# Altium integrated library Maxim Digital Potentiometers.IntLib: 1045 symbols (part 38 of 42)
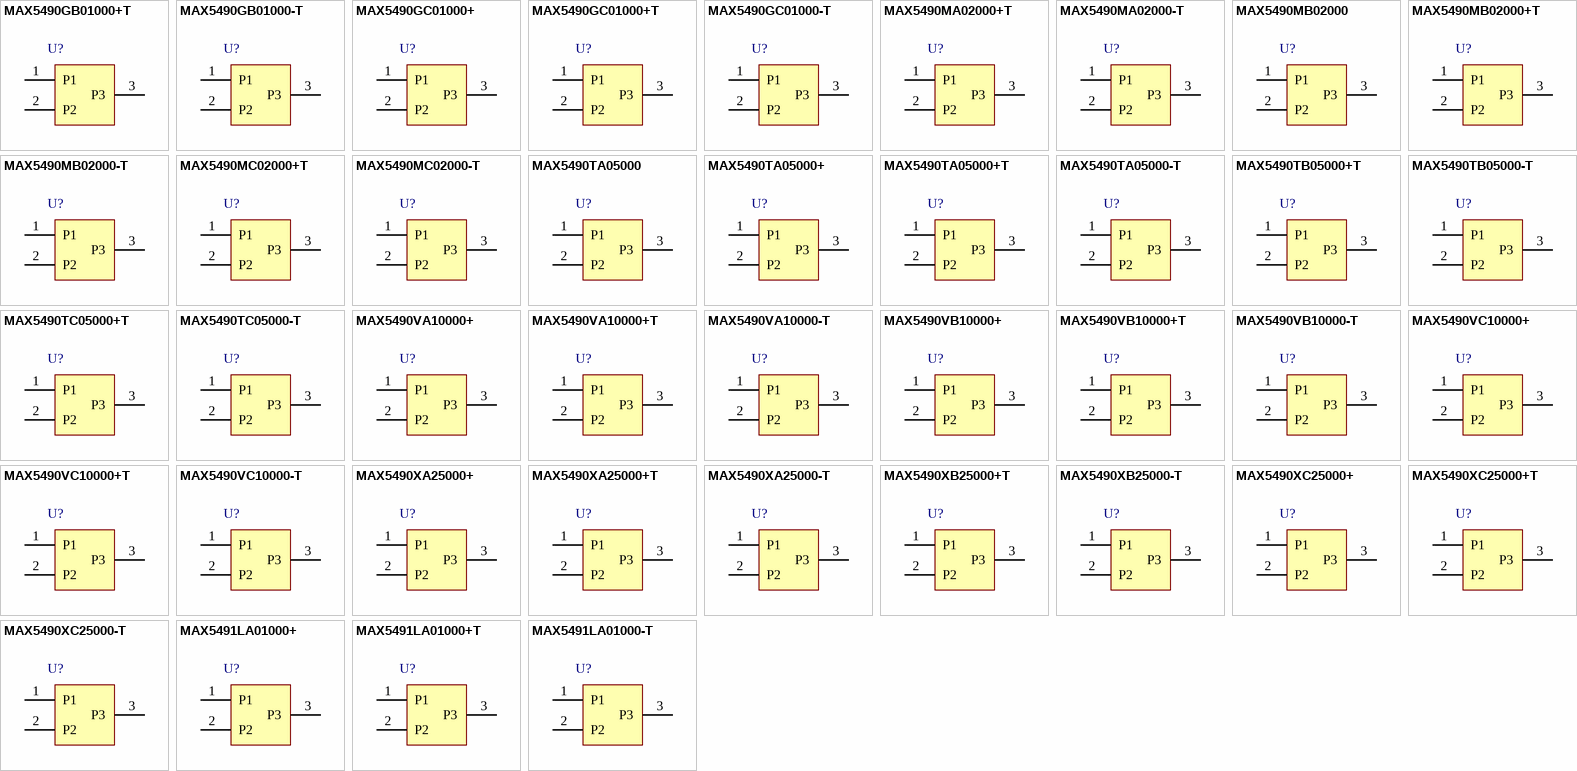
[diagram p66: symbols MAX5490GB01000+T to MAX5491LA01000-T]

## MAX5490XB25000-T
designator U?
100k 2 kv ESD Precision-Matched Resistor-Divider, -55 to 125 degC, 3-pin SOT (U3-2), Tape and Reel; PartNumber: MAX5490XB25000-T; DatasheetVersion: Rev. 2; PackageVersion: Rev. J, 06/2012; PackageReference: U3-2; PackageDescription: 3-Pin Small-Outline Transistor Package (U3-2), Body 2.92 x 1.3 mm, Pitch 0.95 mm; Supplier 1: Mouser; Supplier Part Number 1: N/A; Applications: Precision Voltage Divider; Mounting Technology: Surface Mount; Code_JEDEC: TO236; ComponentLink1Description: Manufacturer URL; ComponentLink1URL: http://www.maximintegrated.com/; ComponentLink2Description: Datasheet; ComponentLink2URL: http://datasheets.maximintegrated.com/en/ds/MAX5490.pdf; ComponentLink3Description: Package Specification; ComponentLink3URL: http://pdfserv.maximintegrated.com/package_dwgs/21-0051.PDF
footprint MAXM-U3-2_N (SOT23, 3-Leads, Body 2.92x1.3mm, Pitch 0.95mm, IPC Medium Density)
footprint MAXM-U3-2_L (SOT23, 3-Leads, Body 2.92x1.3mm, Pitch 0.95mm, IPC High Density)
footprint MAXM-U3-2_M (SOT23, 3-Leads, Body 2.92x1.3mm, Pitch 0.95mm, IPC Low Density)
pins: 1 P1 "R1 Connection Terminal", 2 P2 "R2 Connection Terminal", 3 P3 "Midpoint Between R1 and R2 Connection Terminals"

## MAX5490XC25000+
designator U?
100k 2 kv ESD Precision-Matched Resistor-Divider, -55 to 125 degC, 3-pin SOT (U3+2), Pb-Free; PartNumber: MAX5490XC25000+; DatasheetVersion: Rev. 2; PackageVersion: Rev. J, 06/2012; PackageReference: U3+2; PackageDescription: 3-Pin Small-Outline Transistor Package (U3+2), Body 2.92 x 1.3 mm, Pitch 0.95 mm; Supplier 1: Mouser; Supplier Part Number 1: N/A; Applications: Precision Voltage Divider; Mounting Technology: Surface Mount; Code_JEDEC: TO236; ComponentLink1Description: Manufacturer URL; ComponentLink1URL: http://www.maximintegrated.com/; ComponentLink2Description: Datasheet; ComponentLink2URL: http://datasheets.maximintegrated.com/en/ds/MAX5490.pdf; ComponentLink3Description: Package Specification; ComponentLink3URL: http://pdfserv.maximintegrated.com/package_dwgs/21-0051.PDF
footprint MAXM-U3+2_N (SOT23, 3-Leads, Body 2.92x1.3mm, Pitch 0.95mm, IPC Medium Density)
footprint MAXM-U3+2_L (SOT23, 3-Leads, Body 2.92x1.3mm, Pitch 0.95mm, IPC High Density)
footprint MAXM-U3+2_M (SOT23, 3-Leads, Body 2.92x1.3mm, Pitch 0.95mm, IPC Low Density)
pins: 1 P1 "R1 Connection Terminal", 2 P2 "R2 Connection Terminal", 3 P3 "Midpoint Between R1 and R2 Connection Terminals"

## MAX5490XC25000+T
designator U?
100k 2 kv ESD Precision-Matched Resistor-Divider, -55 to 125 degC, 3-pin SOT (U3+2), Pb-Free, Tape and Reel; PartNumber: MAX5490XC25000+T; DatasheetVersion: Rev. 2; PackageVersion: Rev. J, 06/2012; PackageReference: U3+2; PackageDescription: 3-Pin Small-Outline Transistor Package (U3+2), Body 2.92 x 1.3 mm, Pitch 0.95 mm; Supplier 1: Digi-Key; Supplier Part Number 1: MAX5490XC25000+TTR-ND; Supplier 2: Digi-Key; Supplier Part Number 2: MAX5490XC25000+TCT-ND; Supplier 3: Digi-Key; Supplier Part Number 3: MAX5490XC25000+TDKR-ND; Supplier 4: Mouser; Supplier Part Number 4: 700-MAX5490XC25000T; Applications: Precision Voltage Divider; Mounting Technology: Surface Mount; Code_JEDEC: TO236; ComponentLink1Description: Manufacturer URL; ComponentLink1URL: http://www.maximintegrated.com/; ComponentLink2Description: Datasheet; ComponentLink2URL: http://datasheets.maximintegrated.com/en/ds/MAX5490.pdf; ComponentLink3Description: Package Specification; ComponentLink3URL: http://pdfserv.maximintegrated.com/package_dwgs/21-0051.PDF
footprint MAXM-U3+2_N (SOT23, 3-Leads, Body 2.92x1.3mm, Pitch 0.95mm, IPC Medium Density)
footprint MAXM-U3+2_L (SOT23, 3-Leads, Body 2.92x1.3mm, Pitch 0.95mm, IPC High Density)
footprint MAXM-U3+2_M (SOT23, 3-Leads, Body 2.92x1.3mm, Pitch 0.95mm, IPC Low Density)
pins: 1 P1 "R1 Connection Terminal", 2 P2 "R2 Connection Terminal", 3 P3 "Midpoint Between R1 and R2 Connection Terminals"

## MAX5490XC25000-T
designator U?
100k 2 kv ESD Precision-Matched Resistor-Divider, -55 to 125 degC, 3-pin SOT (U3-2), Tape and Reel; PartNumber: MAX5490XC25000-T; DatasheetVersion: Rev. 2; PackageVersion: Rev. J, 06/2012; PackageReference: U3-2; PackageDescription: 3-Pin Small-Outline Transistor Package (U3-2), Body 2.92 x 1.3 mm, Pitch 0.95 mm; Supplier 1: Mouser; Supplier Part Number 1: N/A; Applications: Precision Voltage Divider; Mounting Technology: Surface Mount; Code_JEDEC: TO236; ComponentLink1Description: Manufacturer URL; ComponentLink1URL: http://www.maximintegrated.com/; ComponentLink2Description: Datasheet; ComponentLink2URL: http://datasheets.maximintegrated.com/en/ds/MAX5490.pdf; ComponentLink3Description: Package Specification; ComponentLink3URL: http://pdfserv.maximintegrated.com/package_dwgs/21-0051.PDF
footprint MAXM-U3-2_N (SOT23, 3-Leads, Body 2.92x1.3mm, Pitch 0.95mm, IPC Medium Density)
footprint MAXM-U3-2_L (SOT23, 3-Leads, Body 2.92x1.3mm, Pitch 0.95mm, IPC High Density)
footprint MAXM-U3-2_M (SOT23, 3-Leads, Body 2.92x1.3mm, Pitch 0.95mm, IPC Low Density)
pins: 1 P1 "R1 Connection Terminal", 2 P2 "R2 Connection Terminal", 3 P3 "Midpoint Between R1 and R2 Connection Terminals"

## MAX5491LA01000+
designator U?
30k 2 kV ESD Precision-Matched Resistor-Divider, -40 to 85 degC, 3-pin SOT (U3+2), Pb-Free; PartNumber: MAX5491LA01000+; DatasheetVersion: Rev. 3; PackageVersion: Rev. J, 06/2012; PackageReference: U3+2; PackageDescription: 3-Pin Small-Outline Transistor Package (U3+2), Body 2.92 x 1.3 mm, Pitch 0.95 mm; Supplier 1: Mouser; Supplier Part Number 1: N/A; Applications: Precision Voltage Divider; Mounting Technology: Surface Mount; Code_JEDEC: TO236; ComponentLink1Description: Manufacturer URL; ComponentLink1URL: http://www.maximintegrated.com/; ComponentLink2Description: Datasheet; ComponentLink2URL: http://datasheets.maximintegrated.com/en/ds/MAX5491.pdf; ComponentLink3Description: Package Specification; ComponentLink3URL: http://pdfserv.maximintegrated.com/package_dwgs/21-0051.PDF
footprint MAXM-U3+2_N (SOT23, 3-Leads, Body 2.92x1.3mm, Pitch 0.95mm, IPC Medium Density)
footprint MAXM-U3+2_L (SOT23, 3-Leads, Body 2.92x1.3mm, Pitch 0.95mm, IPC High Density)
footprint MAXM-U3+2_M (SOT23, 3-Leads, Body 2.92x1.3mm, Pitch 0.95mm, IPC Low Density)
pins: 1 P1 "R1 Connection Terminal", 2 P2 "R2 Connection Terminal", 3 P3 "Midpoint Between R1 and R2 Connection Terminals"

## MAX5491LA01000+T
designator U?
30k 2 kV ESD Precision-Matched Resistor-Divider, -40 to 85 degC, 3-pin SOT (U3+2), Pb-Free, Tape and Reel; PartNumber: MAX5491LA01000+T; DatasheetVersion: Rev. 3; PackageVersion: Rev. J, 06/2012; PackageReference: U3+2; PackageDescription: 3-Pin Small-Outline Transistor Package (U3+2), Body 2.92 x 1.3 mm, Pitch 0.95 mm; Supplier 1: Digi-Key; Supplier Part Number 1: MAX5491LA01000+TTR-ND; Supplier 2: Digi-Key; Supplier Part Number 2: MAX5491LA01000+TCT-ND; Supplier 3: Digi-Key; Supplier Part Number 3: MAX5491LA01000+TDKR-ND; Supplier 4: Farnell; Supplier Part Number 4: 1845899; Supplier 5: Mouser; Supplier Part Number 5: 700-MAX5491LA01000T; Applications: Precision Voltage Divider; Mounting Technology: Surface Mount; Code_JEDEC: TO236; ComponentLink1Description: Manufacturer URL; ComponentLink1URL: http://www.maximintegrated.com/; ComponentLink2Description: Datasheet; ComponentLink2URL: http://datasheets.maximintegrated.com/en/ds/MAX5491.pdf; ComponentLink3Description: Package Specification; ComponentLink3URL: http://pdfserv.maximintegrated.com/package_dwgs/21-0051.PDF
footprint MAXM-U3+2_N (SOT23, 3-Leads, Body 2.92x1.3mm, Pitch 0.95mm, IPC Medium Density)
footprint MAXM-U3+2_L (SOT23, 3-Leads, Body 2.92x1.3mm, Pitch 0.95mm, IPC High Density)
footprint MAXM-U3+2_M (SOT23, 3-Leads, Body 2.92x1.3mm, Pitch 0.95mm, IPC Low Density)
pins: 1 P1 "R1 Connection Terminal", 2 P2 "R2 Connection Terminal", 3 P3 "Midpoint Between R1 and R2 Connection Terminals"

## MAX5491LA01000-T
designator U?
30k 2 kV ESD Precision-Matched Resistor-Divider, -40 to 85 degC, 3-pin SOT (U3-2), Tape and Reel; PartNumber: MAX5491LA01000-T; DatasheetVersion: Rev. 3; PackageVersion: Rev. J, 06/2012; PackageReference: U3-2; PackageDescription: 3-Pin Small-Outline Transistor Package (U3-2), Body 2.92 x 1.3 mm, Pitch 0.95 mm; Supplier 1: Mouser; Supplier Part Number 1: N/A; Applications: Precision Voltage Divider; Mounting Technology: Surface Mount; Code_JEDEC: TO236; ComponentLink1Description: Manufacturer URL; ComponentLink1URL: http://www.maximintegrated.com/; ComponentLink2Description: Datasheet; ComponentLink2URL: http://datasheets.maximintegrated.com/en/ds/MAX5491.pdf; ComponentLink3Description: Package Specification; ComponentLink3URL: http://pdfserv.maximintegrated.com/package_dwgs/21-0051.PDF
footprint MAXM-U3-2_N (SOT23, 3-Leads, Body 2.92x1.3mm, Pitch 0.95mm, IPC Medium Density)
footprint MAXM-U3-2_L (SOT23, 3-Leads, Body 2.92x1.3mm, Pitch 0.95mm, IPC High Density)
footprint MAXM-U3-2_M (SOT23, 3-Leads, Body 2.92x1.3mm, Pitch 0.95mm, IPC Low Density)
pins: 1 P1 "R1 Connection Terminal", 2 P2 "R2 Connection Terminal", 3 P3 "Midpoint Between R1 and R2 Connection Terminals"

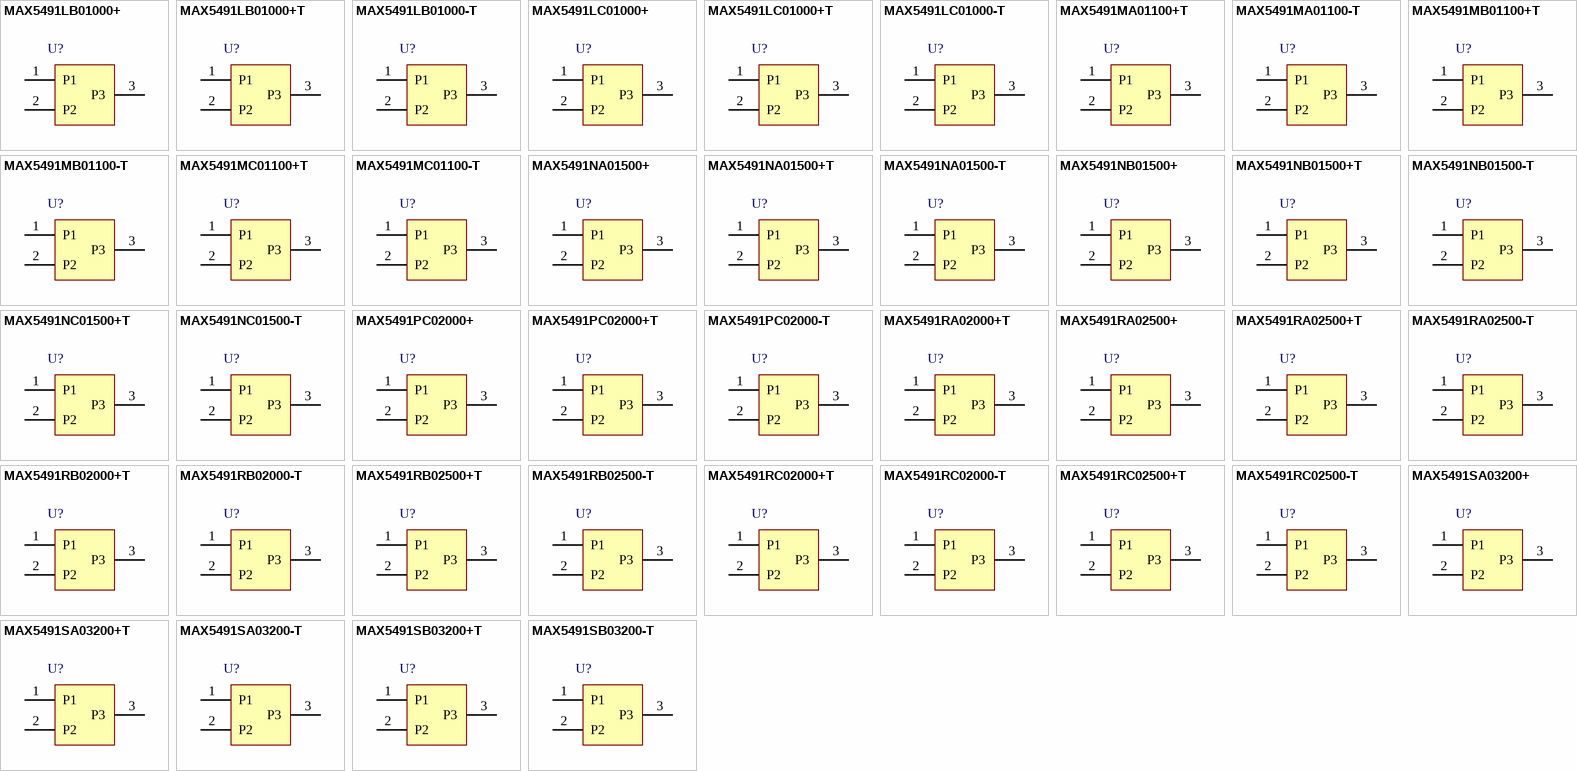
[diagram p26: symbols MAX5491LB01000+ to MAX5491SB03200-T]

## MAX5491LB01000+
designator U?
30k 2 kV ESD Precision-Matched Resistor-Divider, -40 to 85 degC, 3-pin SOT (U3+2), Pb-Free; PartNumber: MAX5491LB01000+; DatasheetVersion: Rev. 3; PackageVersion: Rev. J, 06/2012; PackageReference: U3+2; PackageDescription: 3-Pin Small-Outline Transistor Package (U3+2), Body 2.92 x 1.3 mm, Pitch 0.95 mm; Supplier 1: Mouser; Supplier Part Number 1: N/A; Applications: Precision Voltage Divider; Mounting Technology: Surface Mount; Code_JEDEC: TO236; ComponentLink1Description: Manufacturer URL; ComponentLink1URL: http://www.maximintegrated.com/; ComponentLink2Description: Datasheet; ComponentLink2URL: http://datasheets.maximintegrated.com/en/ds/MAX5491.pdf; ComponentLink3Description: Package Specification; ComponentLink3URL: http://pdfserv.maximintegrated.com/package_dwgs/21-0051.PDF
footprint MAXM-U3+2_N (SOT23, 3-Leads, Body 2.92x1.3mm, Pitch 0.95mm, IPC Medium Density)
footprint MAXM-U3+2_L (SOT23, 3-Leads, Body 2.92x1.3mm, Pitch 0.95mm, IPC High Density)
footprint MAXM-U3+2_M (SOT23, 3-Leads, Body 2.92x1.3mm, Pitch 0.95mm, IPC Low Density)
pins: 1 P1 "R1 Connection Terminal", 2 P2 "R2 Connection Terminal", 3 P3 "Midpoint Between R1 and R2 Connection Terminals"

## MAX5491LB01000+T
designator U?
30k 2 kV ESD Precision-Matched Resistor-Divider, -40 to 85 degC, 3-pin SOT (U3+2), Pb-Free, Tape and Reel; PartNumber: MAX5491LB01000+T; DatasheetVersion: Rev. 3; PackageVersion: Rev. J, 06/2012; PackageReference: U3+2; PackageDescription: 3-Pin Small-Outline Transistor Package (U3+2), Body 2.92 x 1.3 mm, Pitch 0.95 mm; Supplier 1: Digi-Key; Supplier Part Number 1: MAX5491LB01000+T-ND; Supplier 2: Mouser; Supplier Part Number 2: 700-MAX5491LB01000T; Applications: Precision Voltage Divider; Mounting Technology: Surface Mount; Code_JEDEC: TO236; ComponentLink1Description: Manufacturer URL; ComponentLink1URL: http://www.maximintegrated.com/; ComponentLink2Description: Datasheet; ComponentLink2URL: http://datasheets.maximintegrated.com/en/ds/MAX5491.pdf; ComponentLink3Description: Package Specification; ComponentLink3URL: http://pdfserv.maximintegrated.com/package_dwgs/21-0051.PDF
footprint MAXM-U3+2_N (SOT23, 3-Leads, Body 2.92x1.3mm, Pitch 0.95mm, IPC Medium Density)
footprint MAXM-U3+2_L (SOT23, 3-Leads, Body 2.92x1.3mm, Pitch 0.95mm, IPC High Density)
footprint MAXM-U3+2_M (SOT23, 3-Leads, Body 2.92x1.3mm, Pitch 0.95mm, IPC Low Density)
pins: 1 P1 "R1 Connection Terminal", 2 P2 "R2 Connection Terminal", 3 P3 "Midpoint Between R1 and R2 Connection Terminals"

## MAX5491LB01000-T
designator U?
30k 2 kV ESD Precision-Matched Resistor-Divider, -40 to 85 degC, 3-pin SOT (U3-2), Tape and Reel; PartNumber: MAX5491LB01000-T; DatasheetVersion: Rev. 3; PackageVersion: Rev. J, 06/2012; PackageReference: U3-2; PackageDescription: 3-Pin Small-Outline Transistor Package (U3-2), Body 2.92 x 1.3 mm, Pitch 0.95 mm; Supplier 1: Mouser; Supplier Part Number 1: N/A; Applications: Precision Voltage Divider; Mounting Technology: Surface Mount; Code_JEDEC: TO236; ComponentLink1Description: Manufacturer URL; ComponentLink1URL: http://www.maximintegrated.com/; ComponentLink2Description: Datasheet; ComponentLink2URL: http://datasheets.maximintegrated.com/en/ds/MAX5491.pdf; ComponentLink3Description: Package Specification; ComponentLink3URL: http://pdfserv.maximintegrated.com/package_dwgs/21-0051.PDF
footprint MAXM-U3-2_N (SOT23, 3-Leads, Body 2.92x1.3mm, Pitch 0.95mm, IPC Medium Density)
footprint MAXM-U3-2_L (SOT23, 3-Leads, Body 2.92x1.3mm, Pitch 0.95mm, IPC High Density)
footprint MAXM-U3-2_M (SOT23, 3-Leads, Body 2.92x1.3mm, Pitch 0.95mm, IPC Low Density)
pins: 1 P1 "R1 Connection Terminal", 2 P2 "R2 Connection Terminal", 3 P3 "Midpoint Between R1 and R2 Connection Terminals"

## MAX5491LC01000+
designator U?
30k 2 kV ESD Precision-Matched Resistor-Divider, -40 to 85 degC, 3-pin SOT (U3+2), Pb-Free; PartNumber: MAX5491LC01000+; DatasheetVersion: Rev. 3; PackageVersion: Rev. J, 06/2012; PackageReference: U3+2; PackageDescription: 3-Pin Small-Outline Transistor Package (U3+2), Body 2.92 x 1.3 mm, Pitch 0.95 mm; Supplier 1: Mouser; Supplier Part Number 1: N/A; Applications: Precision Voltage Divider; Mounting Technology: Surface Mount; Code_JEDEC: TO236; ComponentLink1Description: Manufacturer URL; ComponentLink1URL: http://www.maximintegrated.com/; ComponentLink2Description: Datasheet; ComponentLink2URL: http://datasheets.maximintegrated.com/en/ds/MAX5491.pdf; ComponentLink3Description: Package Specification; ComponentLink3URL: http://pdfserv.maximintegrated.com/package_dwgs/21-0051.PDF
footprint MAXM-U3+2_N (SOT23, 3-Leads, Body 2.92x1.3mm, Pitch 0.95mm, IPC Medium Density)
footprint MAXM-U3+2_L (SOT23, 3-Leads, Body 2.92x1.3mm, Pitch 0.95mm, IPC High Density)
footprint MAXM-U3+2_M (SOT23, 3-Leads, Body 2.92x1.3mm, Pitch 0.95mm, IPC Low Density)
pins: 1 P1 "R1 Connection Terminal", 2 P2 "R2 Connection Terminal", 3 P3 "Midpoint Between R1 and R2 Connection Terminals"

## MAX5491LC01000+T
designator U?
30k 2 kV ESD Precision-Matched Resistor-Divider, -40 to 85 degC, 3-pin SOT (U3+2), Pb-Free, Tape and Reel; PartNumber: MAX5491LC01000+T; DatasheetVersion: Rev. 3; PackageVersion: Rev. J, 06/2012; PackageReference: U3+2; PackageDescription: 3-Pin Small-Outline Transistor Package (U3+2), Body 2.92 x 1.3 mm, Pitch 0.95 mm; Supplier 1: Digi-Key; Supplier Part Number 1: MAX5491LC01000+TTR-ND; Supplier 2: Digi-Key; Supplier Part Number 2: MAX5491LC01000+TCT-ND; Supplier 3: Digi-Key; Supplier Part Number 3: MAX5491LC01000+TDKR-ND; Supplier 4: Mouser; Supplier Part Number 4: 700-MAX5491LC01000T; Applications: Precision Voltage Divider; Mounting Technology: Surface Mount; Code_JEDEC: TO236; ComponentLink1Description: Manufacturer URL; ComponentLink1URL: http://www.maximintegrated.com/; ComponentLink2Description: Datasheet; ComponentLink2URL: http://datasheets.maximintegrated.com/en/ds/MAX5491.pdf; ComponentLink3Description: Package Specification; ComponentLink3URL: http://pdfserv.maximintegrated.com/package_dwgs/21-0051.PDF
footprint MAXM-U3+2_N (SOT23, 3-Leads, Body 2.92x1.3mm, Pitch 0.95mm, IPC Medium Density)
footprint MAXM-U3+2_L (SOT23, 3-Leads, Body 2.92x1.3mm, Pitch 0.95mm, IPC High Density)
footprint MAXM-U3+2_M (SOT23, 3-Leads, Body 2.92x1.3mm, Pitch 0.95mm, IPC Low Density)
pins: 1 P1 "R1 Connection Terminal", 2 P2 "R2 Connection Terminal", 3 P3 "Midpoint Between R1 and R2 Connection Terminals"

## MAX5491LC01000-T
designator U?
30k 2 kV ESD Precision-Matched Resistor-Divider, -40 to 85 degC, 3-pin SOT (U3-2), Tape and Reel; PartNumber: MAX5491LC01000-T; DatasheetVersion: Rev. 3; PackageVersion: Rev. J, 06/2012; PackageReference: U3-2; PackageDescription: 3-Pin Small-Outline Transistor Package (U3-2), Body 2.92 x 1.3 mm, Pitch 0.95 mm; Supplier 1: Mouser; Supplier Part Number 1: N/A; Applications: Precision Voltage Divider; Mounting Technology: Surface Mount; Code_JEDEC: TO236; ComponentLink1Description: Manufacturer URL; ComponentLink1URL: http://www.maximintegrated.com/; ComponentLink2Description: Datasheet; ComponentLink2URL: http://datasheets.maximintegrated.com/en/ds/MAX5491.pdf; ComponentLink3Description: Package Specification; ComponentLink3URL: http://pdfserv.maximintegrated.com/package_dwgs/21-0051.PDF
footprint MAXM-U3-2_N (SOT23, 3-Leads, Body 2.92x1.3mm, Pitch 0.95mm, IPC Medium Density)
footprint MAXM-U3-2_L (SOT23, 3-Leads, Body 2.92x1.3mm, Pitch 0.95mm, IPC High Density)
footprint MAXM-U3-2_M (SOT23, 3-Leads, Body 2.92x1.3mm, Pitch 0.95mm, IPC Low Density)
pins: 1 P1 "R1 Connection Terminal", 2 P2 "R2 Connection Terminal", 3 P3 "Midpoint Between R1 and R2 Connection Terminals"

## MAX5491MA01100+T
designator U?
30k 2 kV ESD Precision-Matched Resistor-Divider, -40 to 85 degC, 3-pin SOT (U3+2), Pb-Free, Tape and Reel; PartNumber: MAX5491MA01100+T; DatasheetVersion: Rev. 3; PackageVersion: Rev. J, 06/2012; PackageReference: U3+2; PackageDescription: 3-Pin Small-Outline Transistor Package (U3+2), Body 2.92 x 1.3 mm, Pitch 0.95 mm; Supplier 1: Digi-Key; Supplier Part Number 1: MAX5491MA01100+T-ND; Supplier 2: Mouser; Supplier Part Number 2: 700-MAX5491MA01100T; Applications: Precision Voltage Divider; Mounting Technology: Surface Mount; Code_JEDEC: TO236; ComponentLink1Description: Manufacturer URL; ComponentLink1URL: http://www.maximintegrated.com/; ComponentLink2Description: Datasheet; ComponentLink2URL: http://datasheets.maximintegrated.com/en/ds/MAX5491.pdf; ComponentLink3Description: Package Specification; ComponentLink3URL: http://pdfserv.maximintegrated.com/package_dwgs/21-0051.PDF
footprint MAXM-U3+2_N (SOT23, 3-Leads, Body 2.92x1.3mm, Pitch 0.95mm, IPC Medium Density)
footprint MAXM-U3+2_L (SOT23, 3-Leads, Body 2.92x1.3mm, Pitch 0.95mm, IPC High Density)
footprint MAXM-U3+2_M (SOT23, 3-Leads, Body 2.92x1.3mm, Pitch 0.95mm, IPC Low Density)
pins: 1 P1 "R1 Connection Terminal", 2 P2 "R2 Connection Terminal", 3 P3 "Midpoint Between R1 and R2 Connection Terminals"

## MAX5491MA01100-T
designator U?
30k 2 kV ESD Precision-Matched Resistor-Divider, -40 to 85 degC, 3-pin SOT (U3-2), Tape and Reel; PartNumber: MAX5491MA01100-T; DatasheetVersion: Rev. 3; PackageVersion: Rev. J, 06/2012; PackageReference: U3-2; PackageDescription: 3-Pin Small-Outline Transistor Package (U3-2), Body 2.92 x 1.3 mm, Pitch 0.95 mm; Supplier 1: Mouser; Supplier Part Number 1: N/A; Applications: Precision Voltage Divider; Mounting Technology: Surface Mount; Code_JEDEC: TO236; ComponentLink1Description: Manufacturer URL; ComponentLink1URL: http://www.maximintegrated.com/; ComponentLink2Description: Datasheet; ComponentLink2URL: http://datasheets.maximintegrated.com/en/ds/MAX5491.pdf; ComponentLink3Description: Package Specification; ComponentLink3URL: http://pdfserv.maximintegrated.com/package_dwgs/21-0051.PDF
footprint MAXM-U3-2_N (SOT23, 3-Leads, Body 2.92x1.3mm, Pitch 0.95mm, IPC Medium Density)
footprint MAXM-U3-2_L (SOT23, 3-Leads, Body 2.92x1.3mm, Pitch 0.95mm, IPC High Density)
footprint MAXM-U3-2_M (SOT23, 3-Leads, Body 2.92x1.3mm, Pitch 0.95mm, IPC Low Density)
pins: 1 P1 "R1 Connection Terminal", 2 P2 "R2 Connection Terminal", 3 P3 "Midpoint Between R1 and R2 Connection Terminals"

## MAX5491MB01100+T
designator U?
30k 2 kV ESD Precision-Matched Resistor-Divider, -40 to 85 degC, 3-pin SOT (U3+2), Pb-Free, Tape and Reel; PartNumber: MAX5491MB01100+T; DatasheetVersion: Rev. 3; PackageVersion: Rev. J, 06/2012; PackageReference: U3+2; PackageDescription: 3-Pin Small-Outline Transistor Package (U3+2), Body 2.92 x 1.3 mm, Pitch 0.95 mm; Supplier 1: Digi-Key; Supplier Part Number 1: MAX5491MB01100+T-ND; Supplier 2: Mouser; Supplier Part Number 2: 700-MAX5491MB01100T; Applications: Precision Voltage Divider; Mounting Technology: Surface Mount; Code_JEDEC: TO236; ComponentLink1Description: Manufacturer URL; ComponentLink1URL: http://www.maximintegrated.com/; ComponentLink2Description: Datasheet; ComponentLink2URL: http://datasheets.maximintegrated.com/en/ds/MAX5491.pdf; ComponentLink3Description: Package Specification; ComponentLink3URL: http://pdfserv.maximintegrated.com/package_dwgs/21-0051.PDF
footprint MAXM-U3+2_N (SOT23, 3-Leads, Body 2.92x1.3mm, Pitch 0.95mm, IPC Medium Density)
footprint MAXM-U3+2_L (SOT23, 3-Leads, Body 2.92x1.3mm, Pitch 0.95mm, IPC High Density)
footprint MAXM-U3+2_M (SOT23, 3-Leads, Body 2.92x1.3mm, Pitch 0.95mm, IPC Low Density)
pins: 1 P1 "R1 Connection Terminal", 2 P2 "R2 Connection Terminal", 3 P3 "Midpoint Between R1 and R2 Connection Terminals"

## MAX5491MB01100-T
designator U?
30k 2 kV ESD Precision-Matched Resistor-Divider, -40 to 85 degC, 3-pin SOT (U3-2), Tape and Reel; PartNumber: MAX5491MB01100-T; DatasheetVersion: Rev. 3; PackageVersion: Rev. J, 06/2012; PackageReference: U3-2; PackageDescription: 3-Pin Small-Outline Transistor Package (U3-2), Body 2.92 x 1.3 mm, Pitch 0.95 mm; Supplier 1: Mouser; Supplier Part Number 1: N/A; Applications: Precision Voltage Divider; Mounting Technology: Surface Mount; Code_JEDEC: TO236; ComponentLink1Description: Manufacturer URL; ComponentLink1URL: http://www.maximintegrated.com/; ComponentLink2Description: Datasheet; ComponentLink2URL: http://datasheets.maximintegrated.com/en/ds/MAX5491.pdf; ComponentLink3Description: Package Specification; ComponentLink3URL: http://pdfserv.maximintegrated.com/package_dwgs/21-0051.PDF
footprint MAXM-U3-2_N (SOT23, 3-Leads, Body 2.92x1.3mm, Pitch 0.95mm, IPC Medium Density)
footprint MAXM-U3-2_L (SOT23, 3-Leads, Body 2.92x1.3mm, Pitch 0.95mm, IPC High Density)
footprint MAXM-U3-2_M (SOT23, 3-Leads, Body 2.92x1.3mm, Pitch 0.95mm, IPC Low Density)
pins: 1 P1 "R1 Connection Terminal", 2 P2 "R2 Connection Terminal", 3 P3 "Midpoint Between R1 and R2 Connection Terminals"

## MAX5491MC01100+T
designator U?
30k 2 kV ESD Precision-Matched Resistor-Divider, -40 to 85 degC, 3-pin SOT (U3+2), Pb-Free, Tape and Reel; PartNumber: MAX5491MC01100+T; DatasheetVersion: Rev. 3; PackageVersion: Rev. J, 06/2012; PackageReference: U3+2; PackageDescription: 3-Pin Small-Outline Transistor Package (U3+2), Body 2.92 x 1.3 mm, Pitch 0.95 mm; Supplier 1: Digi-Key; Supplier Part Number 1: MAX5491MC01100+T-ND; Supplier 2: Mouser; Supplier Part Number 2: 700-MAX5491MC01100T; Applications: Precision Voltage Divider; Mounting Technology: Surface Mount; Code_JEDEC: TO236; ComponentLink1Description: Manufacturer URL; ComponentLink1URL: http://www.maximintegrated.com/; ComponentLink2Description: Datasheet; ComponentLink2URL: http://datasheets.maximintegrated.com/en/ds/MAX5491.pdf; ComponentLink3Description: Package Specification; ComponentLink3URL: http://pdfserv.maximintegrated.com/package_dwgs/21-0051.PDF
footprint MAXM-U3+2_N (SOT23, 3-Leads, Body 2.92x1.3mm, Pitch 0.95mm, IPC Medium Density)
footprint MAXM-U3+2_L (SOT23, 3-Leads, Body 2.92x1.3mm, Pitch 0.95mm, IPC High Density)
footprint MAXM-U3+2_M (SOT23, 3-Leads, Body 2.92x1.3mm, Pitch 0.95mm, IPC Low Density)
pins: 1 P1 "R1 Connection Terminal", 2 P2 "R2 Connection Terminal", 3 P3 "Midpoint Between R1 and R2 Connection Terminals"

## MAX5491MC01100-T
designator U?
30k 2 kV ESD Precision-Matched Resistor-Divider, -40 to 85 degC, 3-pin SOT (U3-2), Tape and Reel; PartNumber: MAX5491MC01100-T; DatasheetVersion: Rev. 3; PackageVersion: Rev. J, 06/2012; PackageReference: U3-2; PackageDescription: 3-Pin Small-Outline Transistor Package (U3-2), Body 2.92 x 1.3 mm, Pitch 0.95 mm; Supplier 1: Mouser; Supplier Part Number 1: N/A; Applications: Precision Voltage Divider; Mounting Technology: Surface Mount; Code_JEDEC: TO236; ComponentLink1Description: Manufacturer URL; ComponentLink1URL: http://www.maximintegrated.com/; ComponentLink2Description: Datasheet; ComponentLink2URL: http://datasheets.maximintegrated.com/en/ds/MAX5491.pdf; ComponentLink3Description: Package Specification; ComponentLink3URL: http://pdfserv.maximintegrated.com/package_dwgs/21-0051.PDF
footprint MAXM-U3-2_N (SOT23, 3-Leads, Body 2.92x1.3mm, Pitch 0.95mm, IPC Medium Density)
footprint MAXM-U3-2_L (SOT23, 3-Leads, Body 2.92x1.3mm, Pitch 0.95mm, IPC High Density)
footprint MAXM-U3-2_M (SOT23, 3-Leads, Body 2.92x1.3mm, Pitch 0.95mm, IPC Low Density)
pins: 1 P1 "R1 Connection Terminal", 2 P2 "R2 Connection Terminal", 3 P3 "Midpoint Between R1 and R2 Connection Terminals"

## MAX5491NA01500+
designator U?
30k 2 kV ESD Precision-Matched Resistor-Divider, -40 to 85 degC, 3-pin SOT (U3+2), Pb-Free; PartNumber: MAX5491NA01500+; DatasheetVersion: Rev. 3; PackageVersion: Rev. J, 06/2012; PackageReference: U3+2; PackageDescription: 3-Pin Small-Outline Transistor Package (U3+2), Body 2.92 x 1.3 mm, Pitch 0.95 mm; Supplier 1: Mouser; Supplier Part Number 1: N/A; Applications: Precision Voltage Divider; Mounting Technology: Surface Mount; Code_JEDEC: TO236; ComponentLink1Description: Manufacturer URL; ComponentLink1URL: http://www.maximintegrated.com/; ComponentLink2Description: Datasheet; ComponentLink2URL: http://datasheets.maximintegrated.com/en/ds/MAX5491.pdf; ComponentLink3Description: Package Specification; ComponentLink3URL: http://pdfserv.maximintegrated.com/package_dwgs/21-0051.PDF
footprint MAXM-U3+2_N (SOT23, 3-Leads, Body 2.92x1.3mm, Pitch 0.95mm, IPC Medium Density)
footprint MAXM-U3+2_L (SOT23, 3-Leads, Body 2.92x1.3mm, Pitch 0.95mm, IPC High Density)
footprint MAXM-U3+2_M (SOT23, 3-Leads, Body 2.92x1.3mm, Pitch 0.95mm, IPC Low Density)
pins: 1 P1 "R1 Connection Terminal", 2 P2 "R2 Connection Terminal", 3 P3 "Midpoint Between R1 and R2 Connection Terminals"

## MAX5491NA01500+T
designator U?
30k 2 kV ESD Precision-Matched Resistor-Divider, -40 to 85 degC, 3-pin SOT (U3+2), Pb-Free, Tape and Reel; PartNumber: MAX5491NA01500+T; DatasheetVersion: Rev. 3; PackageVersion: Rev. J, 06/2012; PackageReference: U3+2; PackageDescription: 3-Pin Small-Outline Transistor Package (U3+2), Body 2.92 x 1.3 mm, Pitch 0.95 mm; Supplier 1: Digi-Key; Supplier Part Number 1: MAX5491NA01500+TTR-ND; Supplier 2: Digi-Key; Supplier Part Number 2: MAX5491NA01500+TCT-ND; Supplier 3: Digi-Key; Supplier Part Number 3: MAX5491NA01500+TDKR-ND; Supplier 4: Farnell; Supplier Part Number 4: 1845900; Supplier 5: Mouser; Supplier Part Number 5: 700-MAX5491NA01500T; Applications: Precision Voltage Divider; Mounting Technology: Surface Mount; Code_JEDEC: TO236; ComponentLink1Description: Manufacturer URL; ComponentLink1URL: http://www.maximintegrated.com/; ComponentLink2Description: Datasheet; ComponentLink2URL: http://datasheets.maximintegrated.com/en/ds/MAX5491.pdf; ComponentLink3Description: Package Specification; ComponentLink3URL: http://pdfserv.maximintegrated.com/package_dwgs/21-0051.PDF
footprint MAXM-U3+2_N (SOT23, 3-Leads, Body 2.92x1.3mm, Pitch 0.95mm, IPC Medium Density)
footprint MAXM-U3+2_L (SOT23, 3-Leads, Body 2.92x1.3mm, Pitch 0.95mm, IPC High Density)
footprint MAXM-U3+2_M (SOT23, 3-Leads, Body 2.92x1.3mm, Pitch 0.95mm, IPC Low Density)
pins: 1 P1 "R1 Connection Terminal", 2 P2 "R2 Connection Terminal", 3 P3 "Midpoint Between R1 and R2 Connection Terminals"

## MAX5491NA01500-T
designator U?
30k 2 kV ESD Precision-Matched Resistor-Divider, -40 to 85 degC, 3-pin SOT (U3-2), Tape and Reel; PartNumber: MAX5491NA01500-T; DatasheetVersion: Rev. 3; PackageVersion: Rev. J, 06/2012; PackageReference: U3-2; PackageDescription: 3-Pin Small-Outline Transistor Package (U3-2), Body 2.92 x 1.3 mm, Pitch 0.95 mm; Supplier 1: Mouser; Supplier Part Number 1: N/A; Applications: Precision Voltage Divider; Mounting Technology: Surface Mount; Code_JEDEC: TO236; ComponentLink1Description: Manufacturer URL; ComponentLink1URL: http://www.maximintegrated.com/; ComponentLink2Description: Datasheet; ComponentLink2URL: http://datasheets.maximintegrated.com/en/ds/MAX5491.pdf; ComponentLink3Description: Package Specification; ComponentLink3URL: http://pdfserv.maximintegrated.com/package_dwgs/21-0051.PDF
footprint MAXM-U3-2_N (SOT23, 3-Leads, Body 2.92x1.3mm, Pitch 0.95mm, IPC Medium Density)
footprint MAXM-U3-2_L (SOT23, 3-Leads, Body 2.92x1.3mm, Pitch 0.95mm, IPC High Density)
footprint MAXM-U3-2_M (SOT23, 3-Leads, Body 2.92x1.3mm, Pitch 0.95mm, IPC Low Density)
pins: 1 P1 "R1 Connection Terminal", 2 P2 "R2 Connection Terminal", 3 P3 "Midpoint Between R1 and R2 Connection Terminals"

## MAX5491NB01500+
designator U?
30k 2 kV ESD Precision-Matched Resistor-Divider, -40 to 85 degC, 3-pin SOT (U3+2), Pb-Free; PartNumber: MAX5491NB01500+; DatasheetVersion: Rev. 3; PackageVersion: Rev. J, 06/2012; PackageReference: U3+2; PackageDescription: 3-Pin Small-Outline Transistor Package (U3+2), Body 2.92 x 1.3 mm, Pitch 0.95 mm; Supplier 1: Mouser; Supplier Part Number 1: N/A; Applications: Precision Voltage Divider; Mounting Technology: Surface Mount; Code_JEDEC: TO236; ComponentLink1Description: Manufacturer URL; ComponentLink1URL: http://www.maximintegrated.com/; ComponentLink2Description: Datasheet; ComponentLink2URL: http://datasheets.maximintegrated.com/en/ds/MAX5491.pdf; ComponentLink3Description: Package Specification; ComponentLink3URL: http://pdfserv.maximintegrated.com/package_dwgs/21-0051.PDF
footprint MAXM-U3+2_N (SOT23, 3-Leads, Body 2.92x1.3mm, Pitch 0.95mm, IPC Medium Density)
footprint MAXM-U3+2_L (SOT23, 3-Leads, Body 2.92x1.3mm, Pitch 0.95mm, IPC High Density)
footprint MAXM-U3+2_M (SOT23, 3-Leads, Body 2.92x1.3mm, Pitch 0.95mm, IPC Low Density)
pins: 1 P1 "R1 Connection Terminal", 2 P2 "R2 Connection Terminal", 3 P3 "Midpoint Between R1 and R2 Connection Terminals"

## MAX5491NB01500+T
designator U?
30k 2 kV ESD Precision-Matched Resistor-Divider, -40 to 85 degC, 3-pin SOT (U3+2), Pb-Free, Tape and Reel; PartNumber: MAX5491NB01500+T; DatasheetVersion: Rev. 3; PackageVersion: Rev. J, 06/2012; PackageReference: U3+2; PackageDescription: 3-Pin Small-Outline Transistor Package (U3+2), Body 2.92 x 1.3 mm, Pitch 0.95 mm; Supplier 1: Digi-Key; Supplier Part Number 1: MAX5491NB01500+T-ND; Supplier 2: Mouser; Supplier Part Number 2: 700-MAX5491NB01500T; Applications: Precision Voltage Divider; Mounting Technology: Surface Mount; Code_JEDEC: TO236; ComponentLink1Description: Manufacturer URL; ComponentLink1URL: http://www.maximintegrated.com/; ComponentLink2Description: Datasheet; ComponentLink2URL: http://datasheets.maximintegrated.com/en/ds/MAX5491.pdf; ComponentLink3Description: Package Specification; ComponentLink3URL: http://pdfserv.maximintegrated.com/package_dwgs/21-0051.PDF
footprint MAXM-U3+2_N (SOT23, 3-Leads, Body 2.92x1.3mm, Pitch 0.95mm, IPC Medium Density)
footprint MAXM-U3+2_L (SOT23, 3-Leads, Body 2.92x1.3mm, Pitch 0.95mm, IPC High Density)
footprint MAXM-U3+2_M (SOT23, 3-Leads, Body 2.92x1.3mm, Pitch 0.95mm, IPC Low Density)
pins: 1 P1 "R1 Connection Terminal", 2 P2 "R2 Connection Terminal", 3 P3 "Midpoint Between R1 and R2 Connection Terminals"

## MAX5491NB01500-T
designator U?
30k 2 kV ESD Precision-Matched Resistor-Divider, -40 to 85 degC, 3-pin SOT (U3-2), Tape and Reel; PartNumber: MAX5491NB01500-T; DatasheetVersion: Rev. 3; PackageVersion: Rev. J, 06/2012; PackageReference: U3-2; PackageDescription: 3-Pin Small-Outline Transistor Package (U3-2), Body 2.92 x 1.3 mm, Pitch 0.95 mm; Supplier 1: Mouser; Supplier Part Number 1: N/A; Applications: Precision Voltage Divider; Mounting Technology: Surface Mount; Code_JEDEC: TO236; ComponentLink1Description: Manufacturer URL; ComponentLink1URL: http://www.maximintegrated.com/; ComponentLink2Description: Datasheet; ComponentLink2URL: http://datasheets.maximintegrated.com/en/ds/MAX5491.pdf; ComponentLink3Description: Package Specification; ComponentLink3URL: http://pdfserv.maximintegrated.com/package_dwgs/21-0051.PDF
footprint MAXM-U3-2_N (SOT23, 3-Leads, Body 2.92x1.3mm, Pitch 0.95mm, IPC Medium Density)
footprint MAXM-U3-2_L (SOT23, 3-Leads, Body 2.92x1.3mm, Pitch 0.95mm, IPC High Density)
footprint MAXM-U3-2_M (SOT23, 3-Leads, Body 2.92x1.3mm, Pitch 0.95mm, IPC Low Density)
pins: 1 P1 "R1 Connection Terminal", 2 P2 "R2 Connection Terminal", 3 P3 "Midpoint Between R1 and R2 Connection Terminals"

## MAX5491NC01500+T
designator U?
30k 2 kV ESD Precision-Matched Resistor-Divider, -40 to 85 degC, 3-pin SOT (U3+2), Pb-Free, Tape and Reel; PartNumber: MAX5491NC01500+T; DatasheetVersion: Rev. 3; PackageVersion: Rev. J, 06/2012; PackageReference: U3+2; PackageDescription: 3-Pin Small-Outline Transistor Package (U3+2), Body 2.92 x 1.3 mm, Pitch 0.95 mm; Supplier 1: Digi-Key; Supplier Part Number 1: MAX5491NC01500+T-ND; Supplier 2: Mouser; Supplier Part Number 2: 700-MAX5491NC01500T; Applications: Precision Voltage Divider; Mounting Technology: Surface Mount; Code_JEDEC: TO236; ComponentLink1Description: Manufacturer URL; ComponentLink1URL: http://www.maximintegrated.com/; ComponentLink2Description: Datasheet; ComponentLink2URL: http://datasheets.maximintegrated.com/en/ds/MAX5491.pdf; ComponentLink3Description: Package Specification; ComponentLink3URL: http://pdfserv.maximintegrated.com/package_dwgs/21-0051.PDF
footprint MAXM-U3+2_N (SOT23, 3-Leads, Body 2.92x1.3mm, Pitch 0.95mm, IPC Medium Density)
footprint MAXM-U3+2_L (SOT23, 3-Leads, Body 2.92x1.3mm, Pitch 0.95mm, IPC High Density)
footprint MAXM-U3+2_M (SOT23, 3-Leads, Body 2.92x1.3mm, Pitch 0.95mm, IPC Low Density)
pins: 1 P1 "R1 Connection Terminal", 2 P2 "R2 Connection Terminal", 3 P3 "Midpoint Between R1 and R2 Connection Terminals"

## MAX5491NC01500-T
designator U?
30k 2 kV ESD Precision-Matched Resistor-Divider, -40 to 85 degC, 3-pin SOT (U3-2), Tape and Reel; PartNumber: MAX5491NC01500-T; DatasheetVersion: Rev. 3; PackageVersion: Rev. J, 06/2012; PackageReference: U3-2; PackageDescription: 3-Pin Small-Outline Transistor Package (U3-2), Body 2.92 x 1.3 mm, Pitch 0.95 mm; Supplier 1: Mouser; Supplier Part Number 1: N/A; Applications: Precision Voltage Divider; Mounting Technology: Surface Mount; Code_JEDEC: TO236; ComponentLink1Description: Manufacturer URL; ComponentLink1URL: http://www.maximintegrated.com/; ComponentLink2Description: Datasheet; ComponentLink2URL: http://datasheets.maximintegrated.com/en/ds/MAX5491.pdf; ComponentLink3Description: Package Specification; ComponentLink3URL: http://pdfserv.maximintegrated.com/package_dwgs/21-0051.PDF
footprint MAXM-U3-2_N (SOT23, 3-Leads, Body 2.92x1.3mm, Pitch 0.95mm, IPC Medium Density)
footprint MAXM-U3-2_L (SOT23, 3-Leads, Body 2.92x1.3mm, Pitch 0.95mm, IPC High Density)
footprint MAXM-U3-2_M (SOT23, 3-Leads, Body 2.92x1.3mm, Pitch 0.95mm, IPC Low Density)
pins: 1 P1 "R1 Connection Terminal", 2 P2 "R2 Connection Terminal", 3 P3 "Midpoint Between R1 and R2 Connection Terminals"

## MAX5491PC02000+
designator U?
30k 2 kV ESD Precision-Matched Resistor-Divider, -40 to 85 degC, 3-pin SOT (U3+2), Pb-Free; PartNumber: MAX5491PC02000+; DatasheetVersion: Rev. 3; PackageVersion: Rev. J, 06/2012; PackageReference: U3+2; PackageDescription: 3-Pin Small-Outline Transistor Package (U3+2), Body 2.92 x 1.3 mm, Pitch 0.95 mm; Supplier 1: Mouser; Supplier Part Number 1: N/A; Applications: Precision Voltage Divider; Mounting Technology: Surface Mount; Code_JEDEC: TO236; ComponentLink1Description: Manufacturer URL; ComponentLink1URL: http://www.maximintegrated.com/; ComponentLink2Description: Datasheet; ComponentLink2URL: http://datasheets.maximintegrated.com/en/ds/MAX5491.pdf; ComponentLink3Description: Package Specification; ComponentLink3URL: http://pdfserv.maximintegrated.com/package_dwgs/21-0051.PDF
footprint MAXM-U3+2_N (SOT23, 3-Leads, Body 2.92x1.3mm, Pitch 0.95mm, IPC Medium Density)
footprint MAXM-U3+2_L (SOT23, 3-Leads, Body 2.92x1.3mm, Pitch 0.95mm, IPC High Density)
footprint MAXM-U3+2_M (SOT23, 3-Leads, Body 2.92x1.3mm, Pitch 0.95mm, IPC Low Density)
pins: 1 P1 "R1 Connection Terminal", 2 P2 "R2 Connection Terminal", 3 P3 "Midpoint Between R1 and R2 Connection Terminals"

## MAX5491PC02000+T
designator U?
30k 2 kV ESD Precision-Matched Resistor-Divider, -40 to 85 degC, 3-pin SOT (U3+2), Pb-Free, Tape and Reel; PartNumber: MAX5491PC02000+T; DatasheetVersion: Rev. 3; PackageVersion: Rev. J, 06/2012; PackageReference: U3+2; PackageDescription: 3-Pin Small-Outline Transistor Package (U3+2), Body 2.92 x 1.3 mm, Pitch 0.95 mm; Supplier 1: Digi-Key; Supplier Part Number 1: MAX5491PC02000+TTR-ND; Supplier 2: Digi-Key; Supplier Part Number 2: MAX5491PC02000+TCT-ND; Supplier 3: Digi-Key; Supplier Part Number 3: MAX5491PC02000+TDKR-ND; Supplier 4: Mouser; Supplier Part Number 4: 700-MAX5491PC02000T; Applications: Precision Voltage Divider; Mounting Technology: Surface Mount; Code_JEDEC: TO236; ComponentLink1Description: Manufacturer URL; ComponentLink1URL: http://www.maximintegrated.com/; ComponentLink2Description: Datasheet; ComponentLink2URL: http://datasheets.maximintegrated.com/en/ds/MAX5491.pdf; ComponentLink3Description: Package Specification; ComponentLink3URL: http://pdfserv.maximintegrated.com/package_dwgs/21-0051.PDF
footprint MAXM-U3+2_N (SOT23, 3-Leads, Body 2.92x1.3mm, Pitch 0.95mm, IPC Medium Density)
footprint MAXM-U3+2_L (SOT23, 3-Leads, Body 2.92x1.3mm, Pitch 0.95mm, IPC High Density)
footprint MAXM-U3+2_M (SOT23, 3-Leads, Body 2.92x1.3mm, Pitch 0.95mm, IPC Low Density)
pins: 1 P1 "R1 Connection Terminal", 2 P2 "R2 Connection Terminal", 3 P3 "Midpoint Between R1 and R2 Connection Terminals"

## MAX5491PC02000-T
designator U?
30k 2 kV ESD Precision-Matched Resistor-Divider, -40 to 85 degC, 3-pin SOT (U3-2), Tape and Reel; PartNumber: MAX5491PC02000-T; DatasheetVersion: Rev. 3; PackageVersion: Rev. J, 06/2012; PackageReference: U3-2; PackageDescription: 3-Pin Small-Outline Transistor Package (U3-2), Body 2.92 x 1.3 mm, Pitch 0.95 mm; Supplier 1: Mouser; Supplier Part Number 1: N/A; Applications: Precision Voltage Divider; Mounting Technology: Surface Mount; Code_JEDEC: TO236; ComponentLink1Description: Manufacturer URL; ComponentLink1URL: http://www.maximintegrated.com/; ComponentLink2Description: Datasheet; ComponentLink2URL: http://datasheets.maximintegrated.com/en/ds/MAX5491.pdf; ComponentLink3Description: Package Specification; ComponentLink3URL: http://pdfserv.maximintegrated.com/package_dwgs/21-0051.PDF
footprint MAXM-U3-2_N (SOT23, 3-Leads, Body 2.92x1.3mm, Pitch 0.95mm, IPC Medium Density)
footprint MAXM-U3-2_L (SOT23, 3-Leads, Body 2.92x1.3mm, Pitch 0.95mm, IPC High Density)
footprint MAXM-U3-2_M (SOT23, 3-Leads, Body 2.92x1.3mm, Pitch 0.95mm, IPC Low Density)
pins: 1 P1 "R1 Connection Terminal", 2 P2 "R2 Connection Terminal", 3 P3 "Midpoint Between R1 and R2 Connection Terminals"

## MAX5491RA02000+T
designator U?
30k 2 kV ESD Precision-Matched Resistor-Divider, -40 to 85 degC, 3-pin SOT (U3+2), Pb-Free, Tape and Reel; PartNumber: MAX5491RA02000+T; DatasheetVersion: Rev. 3; PackageVersion: Rev. J, 06/2012; PackageReference: U3+2; PackageDescription: 3-Pin Small-Outline Transistor Package (U3+2), Body 2.92 x 1.3 mm, Pitch 0.95 mm; Supplier 1: Digi-Key; Supplier Part Number 1: MAX5491RA02000+T-ND; Supplier 2: Mouser; Supplier Part Number 2: 700-MAX5491RA02000+T; Applications: Precision Voltage Divider; Mounting Technology: Surface Mount; Code_JEDEC: TO236; ComponentLink1Description: Manufacturer URL; ComponentLink1URL: http://www.maximintegrated.com/; ComponentLink2Description: Datasheet; ComponentLink2URL: http://datasheets.maximintegrated.com/en/ds/MAX5491.pdf; ComponentLink3Description: Package Specification; ComponentLink3URL: http://pdfserv.maximintegrated.com/package_dwgs/21-0051.PDF
footprint MAXM-U3+2_N (SOT23, 3-Leads, Body 2.92x1.3mm, Pitch 0.95mm, IPC Medium Density)
footprint MAXM-U3+2_L (SOT23, 3-Leads, Body 2.92x1.3mm, Pitch 0.95mm, IPC High Density)
footprint MAXM-U3+2_M (SOT23, 3-Leads, Body 2.92x1.3mm, Pitch 0.95mm, IPC Low Density)
pins: 1 P1 "R1 Connection Terminal", 2 P2 "R2 Connection Terminal", 3 P3 "Midpoint Between R1 and R2 Connection Terminals"

## MAX5491RA02500+
designator U?
30k 2 kV ESD Precision-Matched Resistor-Divider, -40 to 85 degC, 3-pin SOT (U3+2), Pb-Free; PartNumber: MAX5491RA02500+; DatasheetVersion: Rev. 3; PackageVersion: Rev. J, 06/2012; PackageReference: U3+2; PackageDescription: 3-Pin Small-Outline Transistor Package (U3+2), Body 2.92 x 1.3 mm, Pitch 0.95 mm; Supplier 1: Mouser; Supplier Part Number 1: N/A; Applications: Precision Voltage Divider; Mounting Technology: Surface Mount; Code_JEDEC: TO236; ComponentLink1Description: Manufacturer URL; ComponentLink1URL: http://www.maximintegrated.com/; ComponentLink2Description: Datasheet; ComponentLink2URL: http://datasheets.maximintegrated.com/en/ds/MAX5491.pdf; ComponentLink3Description: Package Specification; ComponentLink3URL: http://pdfserv.maximintegrated.com/package_dwgs/21-0051.PDF
footprint MAXM-U3+2_N (SOT23, 3-Leads, Body 2.92x1.3mm, Pitch 0.95mm, IPC Medium Density)
footprint MAXM-U3+2_L (SOT23, 3-Leads, Body 2.92x1.3mm, Pitch 0.95mm, IPC High Density)
footprint MAXM-U3+2_M (SOT23, 3-Leads, Body 2.92x1.3mm, Pitch 0.95mm, IPC Low Density)
pins: 1 P1 "R1 Connection Terminal", 2 P2 "R2 Connection Terminal", 3 P3 "Midpoint Between R1 and R2 Connection Terminals"

## MAX5491RA02500+T
designator U?
30k 2 kV ESD Precision-Matched Resistor-Divider, -40 to 85 degC, 3-pin SOT (U3+2), Pb-Free, Tape and Reel; PartNumber: MAX5491RA02500+T; DatasheetVersion: Rev. 3; PackageVersion: Rev. J, 06/2012; PackageReference: U3+2; PackageDescription: 3-Pin Small-Outline Transistor Package (U3+2), Body 2.92 x 1.3 mm, Pitch 0.95 mm; Supplier 1: Digi-Key; Supplier Part Number 1: MAX5491RA02500+T-ND; Supplier 2: Mouser; Supplier Part Number 2: 700-MAX5491RA02500T; Applications: Precision Voltage Divider; Mounting Technology: Surface Mount; Code_JEDEC: TO236; ComponentLink1Description: Manufacturer URL; ComponentLink1URL: http://www.maximintegrated.com/; ComponentLink2Description: Datasheet; ComponentLink2URL: http://datasheets.maximintegrated.com/en/ds/MAX5491.pdf; ComponentLink3Description: Package Specification; ComponentLink3URL: http://pdfserv.maximintegrated.com/package_dwgs/21-0051.PDF
footprint MAXM-U3+2_N (SOT23, 3-Leads, Body 2.92x1.3mm, Pitch 0.95mm, IPC Medium Density)
footprint MAXM-U3+2_L (SOT23, 3-Leads, Body 2.92x1.3mm, Pitch 0.95mm, IPC High Density)
footprint MAXM-U3+2_M (SOT23, 3-Leads, Body 2.92x1.3mm, Pitch 0.95mm, IPC Low Density)
pins: 1 P1 "R1 Connection Terminal", 2 P2 "R2 Connection Terminal", 3 P3 "Midpoint Between R1 and R2 Connection Terminals"

## MAX5491RA02500-T
designator U?
30k 2 kV ESD Precision-Matched Resistor-Divider, -40 to 85 degC, 3-pin SOT (U3-2), Tape and Reel; PartNumber: MAX5491RA02500-T; DatasheetVersion: Rev. 3; PackageVersion: Rev. J, 06/2012; PackageReference: U3-2; PackageDescription: 3-Pin Small-Outline Transistor Package (U3-2), Body 2.92 x 1.3 mm, Pitch 0.95 mm; Supplier 1: Mouser; Supplier Part Number 1: N/A; Applications: Precision Voltage Divider; Mounting Technology: Surface Mount; Code_JEDEC: TO236; ComponentLink1Description: Manufacturer URL; ComponentLink1URL: http://www.maximintegrated.com/; ComponentLink2Description: Datasheet; ComponentLink2URL: http://datasheets.maximintegrated.com/en/ds/MAX5491.pdf; ComponentLink3Description: Package Specification; ComponentLink3URL: http://pdfserv.maximintegrated.com/package_dwgs/21-0051.PDF
footprint MAXM-U3-2_N (SOT23, 3-Leads, Body 2.92x1.3mm, Pitch 0.95mm, IPC Medium Density)
footprint MAXM-U3-2_L (SOT23, 3-Leads, Body 2.92x1.3mm, Pitch 0.95mm, IPC High Density)
footprint MAXM-U3-2_M (SOT23, 3-Leads, Body 2.92x1.3mm, Pitch 0.95mm, IPC Low Density)
pins: 1 P1 "R1 Connection Terminal", 2 P2 "R2 Connection Terminal", 3 P3 "Midpoint Between R1 and R2 Connection Terminals"

## MAX5491RB02000+T
designator U?
30k 2 kV ESD Precision-Matched Resistor-Divider, -40 to 85 degC, 3-pin SOT (U3+2), Pb-Free, Tape and Reel; PartNumber: MAX5491RB02000+T; DatasheetVersion: Rev. 3; PackageVersion: Rev. J, 06/2012; PackageReference: U3+2; PackageDescription: 3-Pin Small-Outline Transistor Package (U3+2), Body 2.92 x 1.3 mm, Pitch 0.95 mm; Supplier 1: Digi-Key; Supplier Part Number 1: MAX5491RB02000+T-ND; Supplier 2: Mouser; Supplier Part Number 2: 700-MAX5491RB02000T; Applications: Precision Voltage Divider; Mounting Technology: Surface Mount; Code_JEDEC: TO236; ComponentLink1Description: Manufacturer URL; ComponentLink1URL: http://www.maximintegrated.com/; ComponentLink2Description: Datasheet; ComponentLink2URL: http://datasheets.maximintegrated.com/en/ds/MAX5491.pdf; ComponentLink3Description: Package Specification; ComponentLink3URL: http://pdfserv.maximintegrated.com/package_dwgs/21-0051.PDF
footprint MAXM-U3+2_N (SOT23, 3-Leads, Body 2.92x1.3mm, Pitch 0.95mm, IPC Medium Density)
footprint MAXM-U3+2_L (SOT23, 3-Leads, Body 2.92x1.3mm, Pitch 0.95mm, IPC High Density)
footprint MAXM-U3+2_M (SOT23, 3-Leads, Body 2.92x1.3mm, Pitch 0.95mm, IPC Low Density)
pins: 1 P1 "R1 Connection Terminal", 2 P2 "R2 Connection Terminal", 3 P3 "Midpoint Between R1 and R2 Connection Terminals"

## MAX5491RB02000-T
designator U?
30k 2 kV ESD Precision-Matched Resistor-Divider, -40 to 85 degC, 3-pin SOT (U3-2), Tape and Reel; PartNumber: MAX5491RB02000-T; DatasheetVersion: Rev. 3; PackageVersion: Rev. J, 06/2012; PackageReference: U3-2; PackageDescription: 3-Pin Small-Outline Transistor Package (U3-2), Body 2.92 x 1.3 mm, Pitch 0.95 mm; Supplier 1: Mouser; Supplier Part Number 1: N/A; Applications: Precision Voltage Divider; Mounting Technology: Surface Mount; Code_JEDEC: TO236; ComponentLink1Description: Manufacturer URL; ComponentLink1URL: http://www.maximintegrated.com/; ComponentLink2Description: Datasheet; ComponentLink2URL: http://datasheets.maximintegrated.com/en/ds/MAX5491.pdf; ComponentLink3Description: Package Specification; ComponentLink3URL: http://pdfserv.maximintegrated.com/package_dwgs/21-0051.PDF
footprint MAXM-U3-2_N (SOT23, 3-Leads, Body 2.92x1.3mm, Pitch 0.95mm, IPC Medium Density)
footprint MAXM-U3-2_L (SOT23, 3-Leads, Body 2.92x1.3mm, Pitch 0.95mm, IPC High Density)
footprint MAXM-U3-2_M (SOT23, 3-Leads, Body 2.92x1.3mm, Pitch 0.95mm, IPC Low Density)
pins: 1 P1 "R1 Connection Terminal", 2 P2 "R2 Connection Terminal", 3 P3 "Midpoint Between R1 and R2 Connection Terminals"

## MAX5491RB02500+T
designator U?
30k 2 kV ESD Precision-Matched Resistor-Divider, -40 to 85 degC, 3-pin SOT (U3+2), Pb-Free, Tape and Reel; PartNumber: MAX5491RB02500+T; DatasheetVersion: Rev. 3; PackageVersion: Rev. J, 06/2012; PackageReference: U3+2; PackageDescription: 3-Pin Small-Outline Transistor Package (U3+2), Body 2.92 x 1.3 mm, Pitch 0.95 mm; Supplier 1: Digi-Key; Supplier Part Number 1: MAX5491RB02500+T-ND; Supplier 2: Mouser; Supplier Part Number 2: 700-MAX5491RB02500T; Applications: Precision Voltage Divider; Mounting Technology: Surface Mount; Code_JEDEC: TO236; ComponentLink1Description: Manufacturer URL; ComponentLink1URL: http://www.maximintegrated.com/; ComponentLink2Description: Datasheet; ComponentLink2URL: http://datasheets.maximintegrated.com/en/ds/MAX5491.pdf; ComponentLink3Description: Package Specification; ComponentLink3URL: http://pdfserv.maximintegrated.com/package_dwgs/21-0051.PDF
footprint MAXM-U3+2_N (SOT23, 3-Leads, Body 2.92x1.3mm, Pitch 0.95mm, IPC Medium Density)
footprint MAXM-U3+2_L (SOT23, 3-Leads, Body 2.92x1.3mm, Pitch 0.95mm, IPC High Density)
footprint MAXM-U3+2_M (SOT23, 3-Leads, Body 2.92x1.3mm, Pitch 0.95mm, IPC Low Density)
pins: 1 P1 "R1 Connection Terminal", 2 P2 "R2 Connection Terminal", 3 P3 "Midpoint Between R1 and R2 Connection Terminals"

## MAX5491RB02500-T
designator U?
30k 2 kV ESD Precision-Matched Resistor-Divider, -40 to 85 degC, 3-pin SOT (U3-2), Tape and Reel; PartNumber: MAX5491RB02500-T; DatasheetVersion: Rev. 3; PackageVersion: Rev. J, 06/2012; PackageReference: U3-2; PackageDescription: 3-Pin Small-Outline Transistor Package (U3-2), Body 2.92 x 1.3 mm, Pitch 0.95 mm; Supplier 1: Mouser; Supplier Part Number 1: N/A; Applications: Precision Voltage Divider; Mounting Technology: Surface Mount; Code_JEDEC: TO236; ComponentLink1Description: Manufacturer URL; ComponentLink1URL: http://www.maximintegrated.com/; ComponentLink2Description: Datasheet; ComponentLink2URL: http://datasheets.maximintegrated.com/en/ds/MAX5491.pdf; ComponentLink3Description: Package Specification; ComponentLink3URL: http://pdfserv.maximintegrated.com/package_dwgs/21-0051.PDF
footprint MAXM-U3-2_N (SOT23, 3-Leads, Body 2.92x1.3mm, Pitch 0.95mm, IPC Medium Density)
footprint MAXM-U3-2_L (SOT23, 3-Leads, Body 2.92x1.3mm, Pitch 0.95mm, IPC High Density)
footprint MAXM-U3-2_M (SOT23, 3-Leads, Body 2.92x1.3mm, Pitch 0.95mm, IPC Low Density)
pins: 1 P1 "R1 Connection Terminal", 2 P2 "R2 Connection Terminal", 3 P3 "Midpoint Between R1 and R2 Connection Terminals"

## MAX5491RC02000+T
designator U?
30k 2 kV ESD Precision-Matched Resistor-Divider, -40 to 85 degC, 3-pin SOT (U3+2), Pb-Free, Tape and Reel; PartNumber: MAX5491RC02000+T; DatasheetVersion: Rev. 3; PackageVersion: Rev. J, 06/2012; PackageReference: U3+2; PackageDescription: 3-Pin Small-Outline Transistor Package (U3+2), Body 2.92 x 1.3 mm, Pitch 0.95 mm; Supplier 1: Digi-Key; Supplier Part Number 1: MAX5491RC02000+T-ND; Supplier 2: Mouser; Supplier Part Number 2: 700-MAX5491RC02000T; Applications: Precision Voltage Divider; Mounting Technology: Surface Mount; Code_JEDEC: TO236; ComponentLink1Description: Manufacturer URL; ComponentLink1URL: http://www.maximintegrated.com/; ComponentLink2Description: Datasheet; ComponentLink2URL: http://datasheets.maximintegrated.com/en/ds/MAX5491.pdf; ComponentLink3Description: Package Specification; ComponentLink3URL: http://pdfserv.maximintegrated.com/package_dwgs/21-0051.PDF
footprint MAXM-U3+2_N (SOT23, 3-Leads, Body 2.92x1.3mm, Pitch 0.95mm, IPC Medium Density)
footprint MAXM-U3+2_L (SOT23, 3-Leads, Body 2.92x1.3mm, Pitch 0.95mm, IPC High Density)
footprint MAXM-U3+2_M (SOT23, 3-Leads, Body 2.92x1.3mm, Pitch 0.95mm, IPC Low Density)
pins: 1 P1 "R1 Connection Terminal", 2 P2 "R2 Connection Terminal", 3 P3 "Midpoint Between R1 and R2 Connection Terminals"